# EAGLE library part MEMSIC_ACCEL (library Bits_library_eagle)
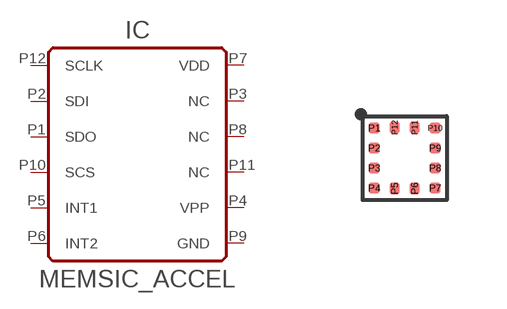
[diagram p21: symbol with the pads of LGA-12; footprint LGA-12]

Designator prefix IC

## MEMSIC_ACCEL  [LGA-12]
P1  SDO
P2  SDI
P3  NC  pwr
P4  VPP  pas
P5  INT1
P6  INT2
P7  VDD  pwr
P8  NC  pas
P9  GND  pwr
P10  SCS
P11  NC  pas
P12  SCLK

## Footprint LGA-12 (pad centres in mm)
smd 0.275 x 0.25: P1 -0.762,0.75; P2 -0.762,0.25; P3 -0.762,-0.25; P4 -0.762,-0.75; P7 0.762,-0.75; P8 0.762,-0.25; P9 0.762,0.25; P10 0.762,0.75
smd 0.25 x 0.275: P5 -0.25,-0.762; P6 0.25,-0.762; P11 0.25,0.762; P12 -0.25,0.762